# Altium footprint library MLB_PCBLib.PcbLib: 75 footprints (part 1 of 5)
Each footprint in its own frame and in the unit in brackets; x right, y up, seen from the top. Pads: shape width x height; smd on the part's side, far side on the other; paste and mask are expansions set on the pad; w line width, h text height; cw(c..) or ccw(c..) is an arc to the next point about the centre after c.
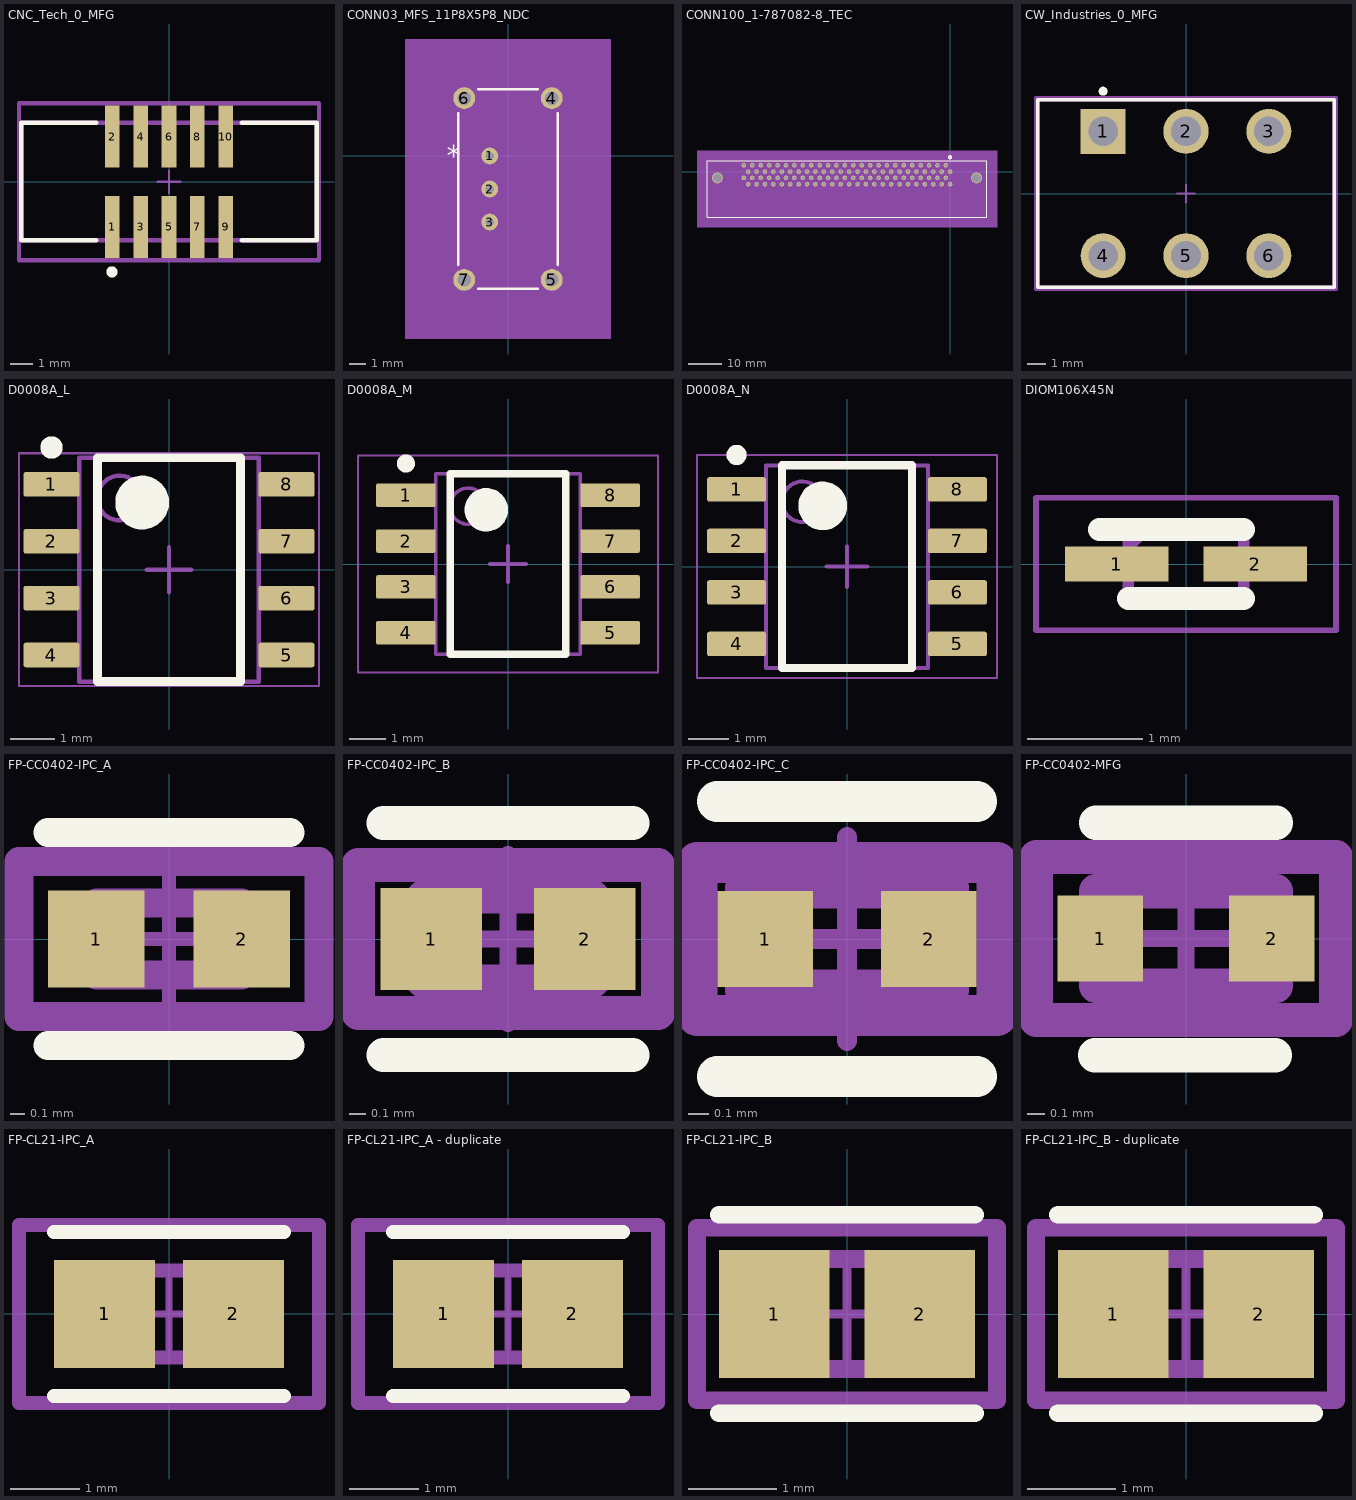
[diagram p0: the footprints below, top view; thin cyan lines are the x and y axes]

## CNC_Tech_0_MFG [mm]
pads (10):
  rect 0.65x2.77 smd paste+0 mask+0: 1(-2.54,-2.015) 2(-2.54,2.015) 3(-1.27,-2.015) 4(-1.27,2.015) 5(0,-2.015) 6(0,2.015) 7(1.27,-2.015) 8(1.27,2.015) 9(2.54,-2.015) 10(2.54,2.015)
Top Overlay:
  circle w0.25: c-2.55,-4.03 r0.125
  lines w0.2: -3.24,-2.625 -6.6,-2.625 -6.6,2.625 -3.24,2.625 ; 3.24,-2.625 6.6,-2.625 6.6,2.625 3.24,2.625
Mechanical 10:
  lines w0.2: -6.7,-3.5 -6.7,3.5 6.7,3.5 6.7,-3.5 -6.7,-3.5
  text ".Designator" at 0,0.188 h1
Mechanical 12:
  lines w0.2: -6.6,-2.625 -6.6,2.625 6.6,2.625 6.6,-2.625 -6.6,-2.625
Mechanical 15:
  lines w0.1: -0.5,0 0.5,0 ; 0,-0.5 0,0.5
  lines w0.2: -6.7,-3.5 -6.7,3.5 6.7,3.5 6.7,-3.5 -6.7,-3.5
3D body "Conn_CNC_Tech_3220-10-0300-00_eec.STEP": height 0.25, standoff 0, extent -6.7,-3.5 6.7,3.5

## CONN03_MFS_11P8X5P8_NDC [mil]
pads (7):
  round 40 hole 20 mask+0: 1(-43.31,0) 2(-43.31,-78.74) 3(-43.31,-157.48)
  round 52 hole 32: 4(104.33,137.8) 5(104.33,-295.28) 6(-104.33,137.8) 7(-104.33,-295.28)
Top Overlay:
  lines w6: -119,-259.03 -119,101.55 ; -71.33,-316.24 71.33,-316.24 ; -71.33,158.76 71.33,158.76 ; 119,-259.03 119,101.55
  text "*" at -146.5,-25 h50
Mechanical 5:
  region: 245,-436.24 -245,-436.24 -245,278.76 245,278.76
Mechanical 13:
  region: 39.5,-137.74 -39.5,-137.74 -39.5,-78.74 39.5,-78.74
  lines w1: -114,-311.24 -114,153.76 114,153.76 114,-311.24 -114,-311.24 ; -39.5,-137.74 39.5,-137.74 39.5,-19.74 -39.5,-19.74 -39.5,-137.74
  text "*" at -111.5,-25 h50
Mechanical 15:
  region: 130,-321.24 -130,-321.24 -130,163.76 130,163.76
  lines w6: -130,-321.24 -130,163.76 130,163.76 130,-321.24 -130,-321.24
3D body: height 10, standoff 0, extent 0,0 10,10

## CONN100_1-787082-8_TEC [mil]
pads (102):
  round 53.86 hole 34 mask+0: 1(0,0) 2(-50,74.8) 3(-100,0) 4(-150,74.8) 5(-200,0) 6(-250,74.8) 7(-300,0) 8(-350,74.8) 9(-400,0) 10(-450,74.8) 11(-500,0) 12(-550,74.8) 13(-600,0) 14(-650,74.8) 15(-700,0) 16(-750,74.8) 17(-800,0) 18(-850,74.8) 19(-900,0) 20(-950,74.8) 21(-1000,0) 22(-1050,74.8) 23(-1100,0) 24(-1150,74.8) 25(-1200,0) 26(-1250,74.8) 27(-1300,0) 28(-1350,74.8) 29(-1400,0) 30(-1450,74.8) 31(-1500,0) 32(-1550,74.8) 33(-1600,0) 34(-1650,74.8) 35(-1700,0) 36(-1750,74.8) 37(-1800,0) 38(-1850,74.8) 39(-1900,0) 40(-1950,74.8) 41(-2000,0) 42(-2050,74.8) 43(-2100,0) 44(-2150,74.8) 45(-2200,0) 46(-2250,74.8) 47(-2300,0) 48(-2350,74.8) 49(-2400,0) 50(-2450,74.8) 51(0,-149.61) 52(-50,-74.8) 53(-100,-149.61) 54(-150,-74.8) 55(-200,-149.61) 56(-250,-74.8) 57(-300,-149.61) 58(-350,-74.8) 59(-400,-149.61) 60(-450,-74.8) 61(-500,-149.61) 62(-550,-74.8) 63(-600,-149.61) 64(-650,-74.8) 65(-700,-149.61) 66(-750,-74.8) 67(-800,-149.61) 68(-850,-74.8) 69(-900,-149.61) 70(-950,-74.8) 71(-1000,-149.61) 72(-1050,-74.8) 73(-1100,-149.61) 74(-1150,-74.8) 75(-1200,-149.61) 76(-1250,-74.8) 77(-1300,-149.61) 78(-1350,-74.8) 79(-1400,-149.61) 80(-1450,-74.8) 81(-1500,-149.61) 82(-1550,-74.8) 83(-1600,-149.61) 84(-1650,-74.8) 85(-1700,-149.61) 86(-1750,-74.8) 87(-1800,-149.61) 88(-1850,-74.8) 89(-1900,-149.61) 90(-1950,-74.8) 91(-2000,-149.61) 92(-2050,-74.8) 93(-2100,-149.61) 94(-2150,-74.8) 95(-2200,-149.61) 96(-2250,-74.8) 97(-2300,-149.61) 98(-2350,-74.8) 99(-2400,-149.61) 100(-2450,-74.8)
  round 128.74 hole 109: 101(-2764.96,-74.8) 102(314.96,-74.8)
Top Layer:
  text "1276-1003-1-ND" at -15170,-1070 h60
Top Overlay:
  circle w20: c0,170 r15
  lines w6: -2887.48,-543.98 437.48,-543.98 437.48,130.2 -2887.48,130.2 -2887.48,-543.98
Bottom Overlay:
  circle w20: c0,170 r15
Mechanical 5:
  region: -3007.48,250.2 557.48,250.2 557.48,-663.98 -3007.48,-663.98
Mechanical 13:
  circle w20: c80,0 r15
  lines w1: -2992.13,-295.67 540,-295.67 ; -2882.48,-538.98 432.48,-538.98 432.48,125.2 -2882.48,125.2 -2882.48,-538.98
  text "PCB EDGE" at -261.81,-348.62 h50
Mechanical 15:
  region: 442.48,135.2 -2892.48,135.2 -2892.48,-548.98 442.48,-548.98
  lines w6: -2892.48,-548.98 -2892.48,135.2 442.48,135.2 442.48,-548.98 -2892.48,-548.98
3D body: height 10, standoff 0, extent 0,0 10,10

## CW_Industries_0_MFG [mm]
pads (6):
  rect 2.5x2.5 hole 1.65 paste-1000 mask+0: 1(-4.6,3.455)
  round 2.5 hole 1.65 paste-1000 mask+0: 2(0,3.455) 3(4.6,3.455) 4(-4.6,-3.455) 5(0,-3.455) 6(4.6,-3.455)
Top Overlay:
  circle w0.25: c-4.6,5.68 r0.125
  lines w0.2: -8.23,-5.205 -8.23,5.205 8.23,5.205 8.23,-5.205 -8.23,-5.205
Mechanical 10:
  lines w0.2: -8.33,-5.305 -8.33,5.305 8.33,5.305 8.33,-5.305 -8.33,-5.305
  text ".Designator" at 0,0.188 h1
Mechanical 12:
  lines w0.2: -8.23,-5.205 -8.23,5.205 8.23,5.205 8.23,-5.205 -8.23,-5.205
Mechanical 15:
  lines w0.1: -0.5,0 0.5,0 ; 0,-0.5 0,0.5
  lines w0.2: -8.33,-5.305 -8.33,5.305 8.33,5.305 8.33,-5.305 -8.33,-5.305
3D body "Switch_CW_Industries_GF-126-0159_eec.STEP": height 0.25, standoff 0, extent -8.33,-5.305 8.33,5.305

## D0008A_L [mm] "SOIC, 8-Leads, Body 5x4mm, Pitch 1.27mm, IPC High Density"
height 1.75
pads (8):
  rrect18% 1.25x0.55 smd: 1(-2.625,1.905) 2(-2.625,0.635) 3(-2.625,-0.635) 4(-2.625,-1.905) 5(2.625,-1.905) 6(2.625,-0.635) 7(2.625,0.635) 8(2.625,1.905)
Top Overlay:
  circle w0.25: c-2.625,2.73 r0.125
  circle w0.6: c-0.6,1.5 r0.3
  lines w0.2: -1.6,-2.5 -1.6,2.5 1.6,2.5 1.6,-2.5 -1.6,-2.5
Mechanical 1:
  text ".Designator" at -1.397,-0.254 h0.6
Mechanical 13:
  circle w0.1: c-1.1,1.6 r0.5
  lines w0.1: -2,-2.5 -2,2.5 2,2.5 2,-2.5 -2,-2.5
Mechanical 15:
  lines w0.05: -3.35,-2.6 -3.35,2.6 3.35,2.6 3.35,-2.6 -3.35,-2.6
  lines w0.1: -0.5,0 0.5,0 ; 0,-0.5 0,0.5
3D body "SOIC-8akaD0008AakaM08A.stp": height 1.63, standoff 0, extent -3,-2.45 3,2.45

## D0008A_M [mm] "SOIC, 8-Leads, Body 5x4mm, Pitch 1.27mm, IPC Low Density"
height 1.75
pads (8):
  rrect15% 1.65x0.65 smd: 1(-2.825,1.905) 2(-2.825,0.635) 3(-2.825,-0.635) 4(-2.825,-1.905) 5(2.825,-1.905) 6(2.825,-0.635) 7(2.825,0.635) 8(2.825,1.905)
Top Overlay:
  circle w0.25: c-2.825,2.78 r0.125
  circle w0.6: c-0.6,1.5 r0.3
  lines w0.2: -1.6,-2.5 -1.6,2.5 1.6,2.5 1.6,-2.5 -1.6,-2.5
Mechanical 1:
  text ".Designator" at -1.397,-0.254 h0.6
Mechanical 13:
  circle w0.1: c-1.1,1.6 r0.5
  lines w0.1: -2,-2.5 -2,2.5 2,2.5 2,-2.5 -2,-2.5
Mechanical 15:
  lines w0.05: -4.15,-3 -4.15,3 4.15,3 4.15,-3 -4.15,-3
  lines w0.1: -0.5,0 0.5,0 ; 0,-0.5 0,0.5
3D body "SOIC-8akaD0008AakaM08A.stp": height 1.63, standoff 0, extent -3,-2.45 3,2.45

## D0008A_N [mm] "SOIC, 8-Leads, Body 5x4mm, Pitch 1.27mm, IPC Medium Density"
height 1.75
pads (8):
  rrect17% 1.45x0.6 smd: 1(-2.725,1.905) 2(-2.725,0.635) 3(-2.725,-0.635) 4(-2.725,-1.905) 5(2.725,-1.905) 6(2.725,-0.635) 7(2.725,0.635) 8(2.725,1.905)
Top Overlay:
  circle w0.6: c-0.6,1.5 r0.3
  circle w0.25: c-2.725,2.755 r0.125
  lines w0.2: -1.6,-2.5 1.6,-2.5 1.6,2.5 -1.6,2.5 -1.6,-2.5
Mechanical 1:
  text ".Designator" at -1.397,-0.254 h0.6
Mechanical 13:
  circle w0.1: c-1.1,1.6 r0.5
  lines w0.1: -2,-2.5 2,-2.5 2,2.5 -2,2.5 -2,-2.5
Mechanical 15:
  lines w0.05: -3.7,-2.75 3.7,-2.75 3.7,2.75 -3.7,2.75 -3.7,-2.75
  lines w0.1: -0.5,0 0.5,0 ; 0,-0.5 0,0.5
3D body "SOIC-8akaD0008AakaM08A.stp": height 1.63, standoff 0, extent -3,-2.45 3,2.45

## DIOM106X45N [mm]
pads (2):
  rect 0.9x0.3 smd: 1(-0.6,0) 2(0.6,0)
Top Overlay:
  lines w0.2: -0.75,0.3 0.5,0.3 ; -0.5,-0.3 0.5,-0.3
Mechanical 13:
  lines w0.1: -0.5,0.15 -0.35,0.3 ; -0.5,-0.3 0.5,-0.3 0.5,0.3 -0.5,0.3 -0.5,-0.3
Mechanical 15:
  lines w0.05: -1.3,-0.575 1.3,-0.575 1.3,0.575 -1.3,0.575 -1.3,-0.575
3D body "DF2S10FS,L3M.stp": height 0.45, standoff 0, extent -0.4,-0.3 0.5,0.3

## FP-CC0402-IPC_A [mm]
pads (2):
  rect 0.668x0.672 smd paste+0 mask+0: 1(-0.502,0) 2(0.502,0)
Top Overlay:
  lines w0.2: -0.836,-0.736 0.836,-0.736 ; -0.836,0.736 0.836,0.736
Top 3D Body:
  lines w0.2: -0.5,-0.25 -0.5,0.25 0.5,0.25 0.5,-0.25 -0.5,-0.25
Top Assembly:
  lines w0.2: -1.036,-0.536 -1.036,0.536 1.036,0.536 1.036,-0.536 -1.036,-0.536
  text ".Designator" at 0,0.188 h1
Top Courtyard:
  lines w0.2: -1.036,-0.536 -1.036,0.536 1.036,0.536 1.036,-0.536 -1.036,-0.536
Top Component Center:
  lines w0.1: -0.5,0 0.5,0 ; 0,-0.5 0,0.5
3D body "Cap_YAGEO_CC0402KRX7R9BB101_eec.STEP": height 0.25, standoff 0, extent -1.036,-0.536 1.036,0.536

## FP-CC0402-IPC_B [mm]
pads (2):
  rect 0.6x0.6 smd paste+0 mask+0: 1(-0.452,0) 2(0.452,0)
Top Overlay:
  lines w0.2: -0.736,-0.686 0.736,-0.686 ; -0.736,0.686 0.736,0.686
Top 3D Body:
  lines w0.2: -0.5,-0.25 -0.5,0.25 0.5,0.25 0.5,-0.25 -0.5,-0.25
Top Assembly:
  lines w0.2: -0.886,-0.436 -0.886,0.436 0.886,0.436 0.886,-0.436 -0.886,-0.436
  text ".Designator" at 0,0.188 h1
Top Courtyard:
  lines w0.2: -0.886,-0.436 -0.886,0.436 0.886,0.436 0.886,-0.436 -0.886,-0.436
Top Component Center:
  lines w0.1: -0.5,0 0.5,0 ; 0,-0.5 0,0.5
3D body "Cap_YAGEO_CC0402KRX7R9BB101_eec.STEP": height 0.25, standoff 0, extent -0.886,-0.436 0.886,0.436

## FP-CC0402-IPC_C [mm]
pads (2):
  rect 0.468x0.472 smd paste+0 mask+0: 1(-0.402,0) 2(0.402,0)
Top Overlay:
  lines w0.2: -0.636,-0.675 0.636,-0.675 ; -0.636,0.675 0.636,0.675
Top 3D Body:
  lines w0.2: -0.5,-0.25 0.5,-0.25 0.5,0.25 -0.5,0.25 -0.5,-0.25
Top Assembly:
  lines w0.2: -0.736,-0.375 0.736,-0.375 0.736,0.375 -0.736,0.375 -0.736,-0.375
  text ".Designator" at 0,0.188 h1
Top Courtyard:
  lines w0.2: -0.736,-0.375 0.736,-0.375 0.736,0.375 -0.736,0.375 -0.736,-0.375
Top Component Center:
  lines w0.1: -0.5,0 0.5,0 ; 0,-0.5 0,0.5
3D body "Cap_YAGEO_CC0402KRX7R9BB101_eec.STEP": height 0.25, standoff 0, extent -0.736,-0.375 0.736,0.375

## FP-CC0402-MFG [mm]
pads (2):
  rect 0.5x0.5 smd paste+0 mask+0: 1(-0.5,0) 2(0.5,0)
Top Overlay:
  lines w0.2: -0.53,-0.681 0.52,-0.681 ; -0.525,0.675 0.525,0.675
Top 3D Body:
  lines w0.2: -0.525,-0.275 -0.525,0.275 0.525,0.275 0.525,-0.275 -0.525,-0.275
Top Assembly:
  lines w0.2: -0.875,-0.475 -0.875,0.475 0.875,0.475 0.875,-0.475 -0.875,-0.475
  text ".Designator" at 0,0.188 h1
Top Courtyard:
  lines w0.2: -0.875,-0.475 -0.875,0.475 0.875,0.475 0.875,-0.475 -0.875,-0.475
Top Component Center:
  lines w0.1: -0.5,0 0.5,0 ; 0,-0.5 0,0.5
3D body "Cap_YAGEO_CC0402KRX7R9BB101_eec.STEP": height 0.25, standoff 0, extent -0.875,-0.475 0.875,0.475

## FP-CL21-IPC_A [mm]
pads (2):
  rect 1.455x1.556 smd paste+0 mask+0: 1(-0.926,0) 2(0.926,0)
Top Overlay:
  lines w0.2: -1.653,-1.178 1.653,-1.178 ; -1.653,1.178 1.653,1.178
Top 3D Body:
  lines w0.2: -1,-0.625 -1,0.625 1,0.625 1,-0.625 -1,-0.625
Top Assembly:
  lines w0.2: -2.153,-1.278 -2.153,1.278 2.153,1.278 2.153,-1.278 -2.153,-1.278
  text ".Designator" at 0,0.188 h1
Top Courtyard:
  lines w0.2: -2.153,-1.278 -2.153,1.278 2.153,1.278 2.153,-1.278 -2.153,-1.278
Top Component Center:
  lines w0.1: -0.5,0 0.5,0 ; 0,-0.5 0,0.5
3D body "Cap_Samsung_CL21B273KBANNNC_eec.STEP": height 0.25, standoff 0, extent -2.153,-1.278 2.153,1.278

## FP-CL21-IPC_A - duplicate [mm]
pads (2):
  rect 1.455x1.556 smd paste+0 mask+0: 1(-0.926,0) 2(0.926,0)
Top Overlay:
  lines w0.2: -1.653,-1.178 1.653,-1.178 ; -1.653,1.178 1.653,1.178
Top 3D Body:
  lines w0.2: -1,-0.625 -1,0.625 1,0.625 1,-0.625 -1,-0.625
Top Assembly:
  lines w0.2: -2.153,-1.278 -2.153,1.278 2.153,1.278 2.153,-1.278 -2.153,-1.278
  text ".Designator" at 0,0.188 h1
Top Courtyard:
  lines w0.2: -2.153,-1.278 -2.153,1.278 2.153,1.278 2.153,-1.278 -2.153,-1.278
Top Component Center:
  lines w0.1: -0.5,0 0.5,0 ; 0,-0.5 0,0.5
3D body "Cap_Samsung_CL21B273KBANNNC_eec.STEP": height 0.25, standoff 0, extent -2.153,-1.278 2.153,1.278

## FP-CL21-IPC_B [mm]
pads (2):
  rect 1.255x1.456 smd paste+0 mask+0: 1(-0.826,0) 2(0.826,0)
Top Overlay:
  lines w0.2: -1.453,-1.128 1.453,-1.128 ; -1.453,1.128 1.453,1.128
Top 3D Body:
  lines w0.2: -1,-0.625 1,-0.625 1,0.625 -1,0.625 -1,-0.625
Top Assembly:
  lines w0.2: -1.703,-0.978 1.703,-0.978 1.703,0.978 -1.703,0.978 -1.703,-0.978
  text ".Designator" at 0,0.188 h1
Top Courtyard:
  lines w0.2: -1.703,-0.978 1.703,-0.978 1.703,0.978 -1.703,0.978 -1.703,-0.978
Top Component Center:
  lines w0.1: -0.5,0 0.5,0 ; 0,-0.5 0,0.5
3D body "Cap_Samsung_CL21B273KBANNNC_eec.STEP": height 0.25, standoff 0, extent -1.703,-0.978 1.703,0.978

## FP-CL21-IPC_B - duplicate [mm]
pads (2):
  rect 1.255x1.456 smd paste+0 mask+0: 1(-0.826,0) 2(0.826,0)
Top Overlay:
  lines w0.2: -1.453,-1.128 1.453,-1.128 ; -1.453,1.128 1.453,1.128
Top 3D Body:
  lines w0.2: -1,-0.625 -1,0.625 1,0.625 1,-0.625 -1,-0.625
Top Assembly:
  lines w0.2: -1.703,-0.978 -1.703,0.978 1.703,0.978 1.703,-0.978 -1.703,-0.978
  text ".Designator" at 0,0.188 h1
Top Courtyard:
  lines w0.2: -1.703,-0.978 -1.703,0.978 1.703,0.978 1.703,-0.978 -1.703,-0.978
Top Component Center:
  lines w0.1: -0.5,0 0.5,0 ; 0,-0.5 0,0.5
3D body "Cap_Samsung_CL21B273KBANNNC_eec.STEP": height 0.25, standoff 0, extent -1.703,-0.978 1.703,0.978